# EAGLE library part ARDUINO_SHIELD (library PumpingStation-One)
Standard sized shield for arduino compatible devices
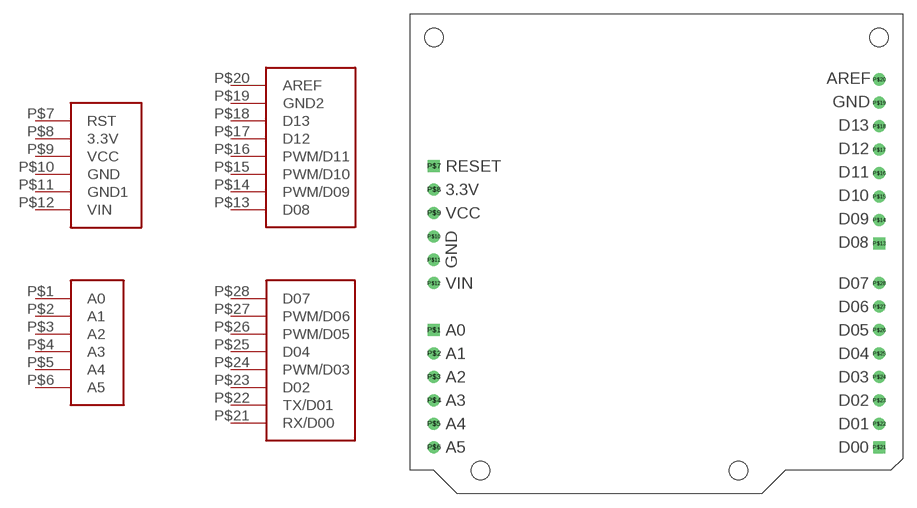
[diagram p0: symbol with the pads of SHIELD; footprint SHIELD]

Designator prefix -

## ARDUINO_SHIELD  [SHIELD]
P$1  A0
P$2  A1
P$3  A2
P$4  A3
P$5  A4
P$6  A5
P$7  RST
P$8  3.3V
P$9  VCC
P$10  GND
P$11  GND1
P$12  VIN
P$13  D08
P$14  PWM/D09
P$15  PWM/D10
P$16  PWM/D11
P$17  D12
P$18  D13
P$19  GND2
P$20  AREF
P$21  RX/D00
P$22  TX/D01
P$23  D02
P$24  PWM/D03
P$25  D04
P$26  PWM/D05
P$27  PWM/D06
P$28  D07

## Footprint SHIELD (pad centres in mm)
drill 0.8 square: P$1 0,12.7; P$7 0,30.48; P$13 48.26,22.098; P$21 48.26,0
drill 0.8 round: P$2 0,10.16; P$3 0,7.62; P$4 0,5.08; P$5 0,2.54; P$6 0,0; P$8 0,27.94; P$9 0,25.4; P$10 0,22.86; P$11 0,20.32; P$12 0,17.78; P$14 48.26,24.638; P$15 48.26,27.178; P$16 48.26,29.718; P$17 48.26,32.258; P$18 48.26,34.798; P$19 48.26,37.338; P$20 48.26,39.878; P$22 48.26,2.54; P$23 48.26,5.08; P$24 48.26,7.62; P$25 48.26,10.16; P$26 48.26,12.7; P$27 48.26,15.24; P$28 48.26,17.78
hole 2 at 33.02,-2.54
hole 2 at 5.08,-2.54
hole 2 at 48.26,44.45
hole 2 at 0,44.45